# Altium schematic symbol library PDM Mk21.SchLib: 8 symbols
Pins are listed as number, name and electrical type; pins without a type are passive.

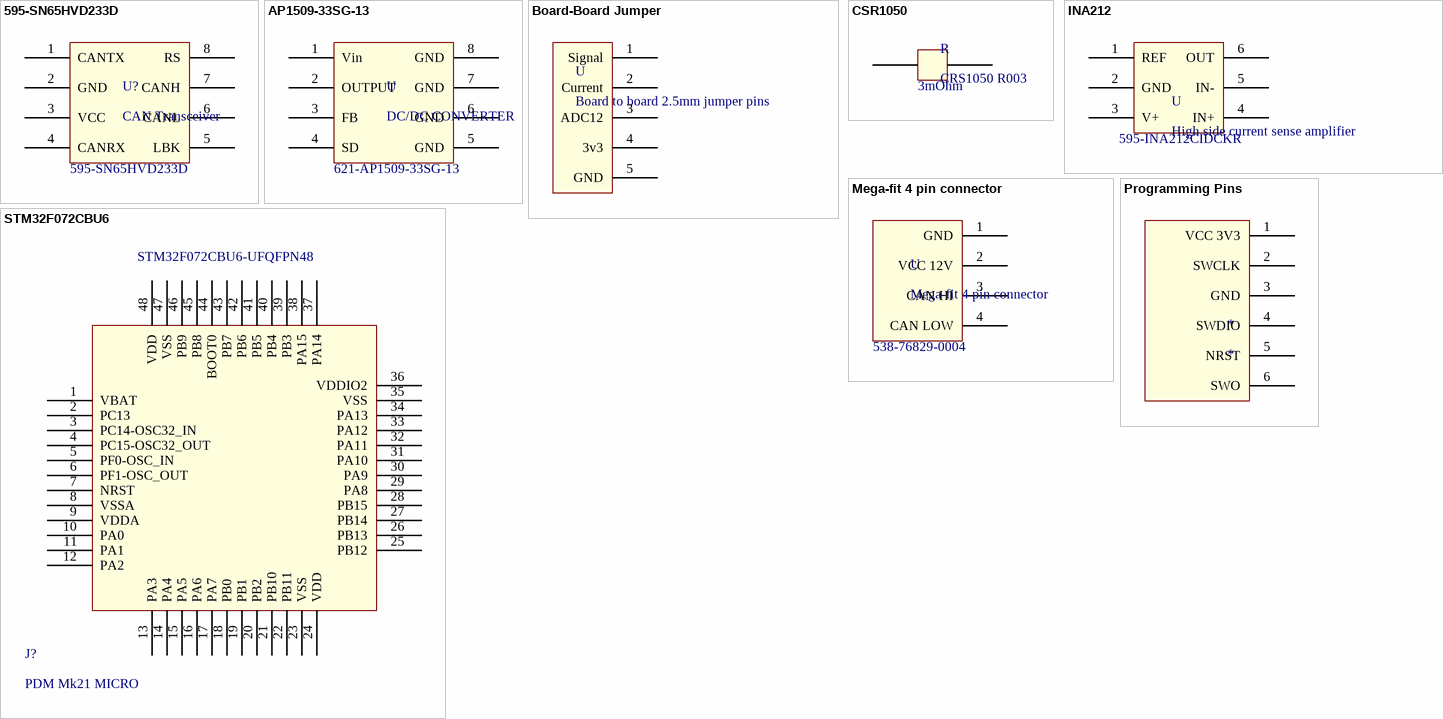
[diagram p0: symbols 595-SN65HVD233D to STM32F072CBU6]

## 595-SN65HVD233D
designator U?, comment CAN Transceiver  Supplier Part No.: 595-SN65HVD233D
Supplier: Mouser
footprint CAN Transceiver (SOP8 Footprint)
pins: 1 CANTX, 2 GND, 3 VCC, 4 CANRX, 5 LBK, 6 CANL, 7 CANH, 8 RS

## AP1509-33SG-13
designator U, comment DC/DC CONVERTER  Supplier Part Number: 621-AP1509-33SG-13
Supplier: Mouser
footprint DC/DC Converter (SOP8 footprint)
pins: 1 Vin, 2 OUTPUT, 3 FB, 4 SD, 5 GND, 6 GND, 7 GND, 8 GND

## Board-Board Jumper
designator U, comment Board to board 2.5mm jumper pins
footprint Board-Board Jumper (Board to board 2.54mm header pins)
pins: 1 Signal, 2 Current, 3 ADC12, 4 3v3, 5 GND

## CSR1050
designator R, comment CRS1050 R003  value 3mOhm
Current Shunt Resistor; Maunfacturer: Arcol; Supplier: Mouser; Supplier Part no.: 284-CRS1050R003J100T; Manufacturer part no.: CRS1050 R003
footprint CRS1050 (3mOhm current shunt resistor footprint)
pins: 1, 2

## INA212
designator U, comment High side current sense amplifier  Supplier Part Number: 595-INA212CIDCKR
Manufacturer: Texas Instruments; Manufacturer part no.: INA212CIDCKR; Supplier: Mouser
footprint INA212 (Current Amplifier)
pins: 1 REF, 2 GND, 3 V+, 4 IN+, 5 IN-, 6 OUT

## Mega-fit 4 pin connector
designator U  Supplier Part No.: 538-76829-0004
MOLEX mega-fit 4 pin connector; Manufacturer Part No.: 76829-0004; Manufacturer: MOLEX; Supplier: Mouser
footprint Mega-fit 4 pin connector (MOLEX mega-fit 4 pin connector)
pins: 1 GND, 2 VCC 12V, 3 CAN HI, 4 CAN LOW

## Programming Pins
designator *
STM32 micro programming pins
footprint Programming Pins (STM32 Micro Programming Pins)
pins: 1 VCC 3V3, 2 SWCLK, 3 GND, 4 SWDIO, 5 NRST, 6 SWO

## STM32F072CBU6
designator J?, comment PDM Mk21 MICRO  Part Number: STM32F072CBU6-UFQFPN48
Manufacturer: ST Microelectrics; Supplier: RS Components
footprint STM32F072CBU6 - duplicate (STMicroelectronics STM32F072CBU6, 32bit ARM Cortex M0 Microcontroller, 48MHz, 64 kB, 128 kB Flash, 48-Pin UFQFPN)
pins: 1 VBAT, 2 PC13, 3 PC14-OSC32_IN, 4 PC15-OSC32_OUT, 5 PF0-OSC_IN, 6 PF1-OSC_OUT, 7 NRST, 8 VSSA, 9 VDDA, 10 PA0, 11 PA1, 12 PA2, 13 PA3, 14 PA4, 15 PA5, 16 PA6, 17 PA7, 18 PB0, 19 PB1, 20 PB2, 21 PB10, 22 PB11, 23 VSS, 24 VDD, 25 PB12, 26 PB13, 27 PB14, 28 PB15, 29 PA8, 30 PA9, 31 PA10, 32 PA11, 33 PA12, 34 PA13, 35 VSS, 36 VDDIO2, 37 PA14, 38 PA15, 39 PB3, 40 PB4, 41 PB5, 42 PB6, 43 PB7, 44 BOOT0, 45 PB8, 46 PB9, 47 VSS, 48 VDD